# Altium schematic symbol library AC-DC controller.SchLib: 1 symbol
Pins are listed as number, name and electrical type; pins without a type are passive.

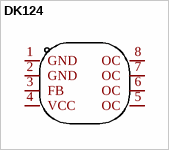
[diagram p0: symbol DK124]

## DK124
designator U?  (value not drawn)
Manufacturer: DK(东科半导体); Add into BOM: yes; Symbol: DK124; Device: DK124; LCSC Part Name: DK124; Supplier Part: C78752; Manufacturer Part: DK124; Supplier Footprint: DIP-8; JLCPCB Part Class: Extended Part; Datasheet: https://atta.szlcsc.com/upload/public/pdf/source/20170523/1495534039933.pdf; Supplier: LCSC; Convert to PCB: yes
footprint DIP-8_L9.7-W6.4-P2.54-LS7.6-BL
pins: 1 GND, 2 GND, 3 FB, 4 VCC, 5 OC, 6 OC, 7 OC, 8 OC